# EAGLE library part USB-C-RECEPTACLE (library hel-diverses)
USB Type C-Buchse Mouser-Artikelnummer: 649-10164359-00011LF
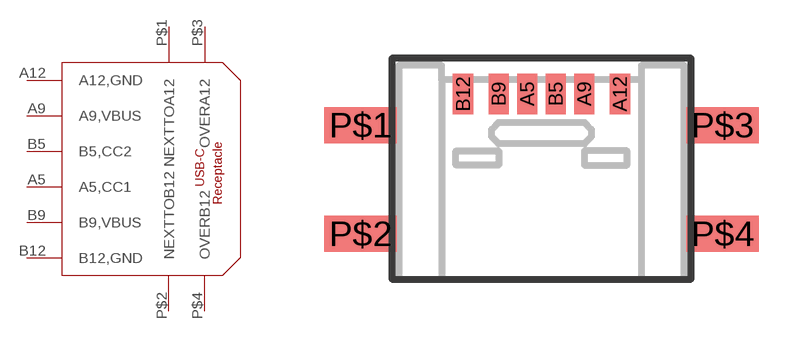
[diagram p0: symbol with the pads of 6-PIN-USB-C-RECEPTACLE; footprint 6-PIN-USB-C-RECEPTACLE]

Designator prefix -

## USB-C-RECEPTACLE  [6-PIN-USB-C-RECEPTACLE]
A5  A5,CC1
A9  A9,VBUS  pwr
A12  A12,GND  pwr
B5  B5,CC2
B9  B9,VBUS  pwr
B12  B12,GND  pwr
P$1  NEXTTOA12  pwr
P$2  NEXTTOB12  pwr
P$3  OVERA12  pwr
P$4  OVERB12  pwr

## Footprint 6-PIN-USB-C-RECEPTACLE (pad centres in mm)
USB Type C Receptacle 6-Pin Amphenol FCi Product Family: HPL 511
smd 0.711 x 1.422: A5 -0.5,3; A9 1.5,3; A12 2.75,3; B5 0.5,3; B9 -1.5,3; B12 -2.75,3
smd 2.54 x 1.27: P$1 -6.35,1.905; P$2 -6.35,-1.905; P$3 6.35,1.905; P$4 6.35,-1.905